# EAGLE library part AS1108 (library Display_Custom)
AS1108 http://ams.com/documents/20143/36005/AS1108_DS000169_2-00.pdf
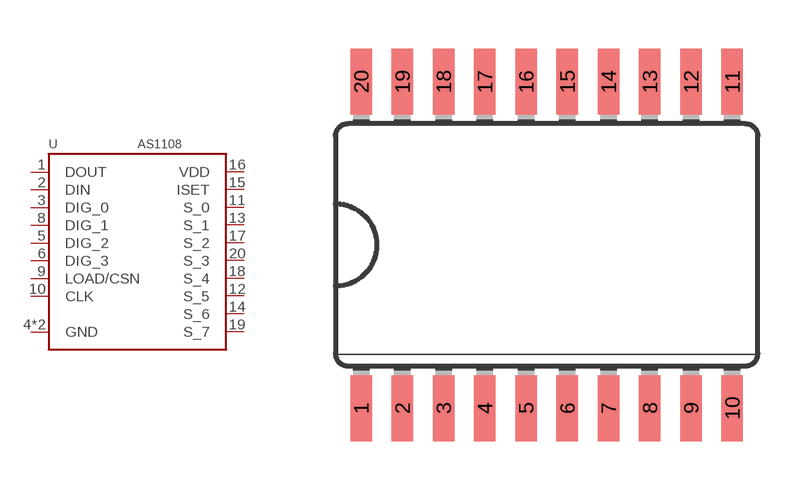
[diagram p9: symbol with the pads of SO20L; footprint SO20L]

Designator prefix -

## AS1108  [SO20L]
1  DOUT
2  DIN
3  DIG_0
4  GND
5  DIG_2
6  DIG_3
7  GND
8  DIG_1
9  LOAD/CSN
10  CLK
11  S_0
12  S_5
13  S_1
14  S_6
15  ISET
16  VDD
17  S_2
18  S_4
19  S_7
20  S_3

## Footprint SO20L (pad centres in mm)
20-Lead (300-MIL) SOIC S5 Source: www.cypress.com .. CY7C6301XX.pdf
smd 0.66 x 2.032: 1 -5.715,-5.029; 2 -4.445,-5.029; 3 -3.175,-5.029; 4 -1.905,-5.029; 5 -0.635,-5.029; 6 0.635,-5.029; 7 1.905,-5.029; 8 3.175,-5.029; 9 4.445,-5.029; 10 5.715,-5.029; 11 5.715,5.029; 12 4.445,5.029; 13 3.175,5.029; 14 1.905,5.029; 15 0.635,5.029; 16 -0.635,5.029; 17 -1.905,5.029; 18 -3.175,5.029; 19 -4.445,5.029; 20 -5.715,5.029